# Altium schematic symbol library inductor.SchLib: 1 symbol
Pins are listed as number, name and electrical type; pins without a type are passive.

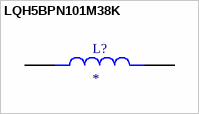
[diagram p0: symbol LQH5BPN101M38K]

## LQH5BPN101M38K
designator L?
Wire Wound Ferrite Inductor for Power Lines; MP: LQH5BPN101M38K; Package: None; Price: None; Value: *; Availability: Unavailable
footprint IND_LQH5BPN101M38K
pins: 1, 2